# EAGLE library part ATMEGA406 (library m-pad)
ATMEL's ATmega406 8bit AVR Microcontroller with 40KB In-System Programmable Flash Summary : Previous implementations of intelligent battery protection have typically required at least two chips to perform the various tasks required which include: voltage regulation, battery monitoring, battery protection, charge management, and communication with the host application. Often a third chip has been required to store parameters specific to the particular battery. Battery packs must shrink in size along with the other components of battery-powered applications. However, when accelerating this shrink, a 3-chip solution obviously creates a PCB space problem. The ATmega406 meets all the application's demands, reducing space, design complexity, and ultimately cost. It includes an AVR® microcontroller with dedicated analog to digital converters tailored for battery fuel gauging and voltage monitoring. Also included are stand-alone high voltage battery protection circuitry, a voltage regulator capable of running the chip on a supply varying from 4 to 25 Volts, integrated cell balancing FETs, and special high voltage I/O capable of controlling charge and discharge. Advanced analog design provides the ATmega406 with unmatched on-chip voltage reference accuracy, resulting in the first single-chip smart battery implementation on the market for 2 - 4 Li-ion cells. With 40 KB of self-programmable Flash program memory, the ATmega406 is capable of in-field firmware upgrades without the need for external programming hardware. Battery parameters can be stored in the internal 2 KB EEPROM. This mix of features makes the ATmega406 AVR capable of implementing a full PC battery pack. Please send any comments to: messi@users.sourceforge.net
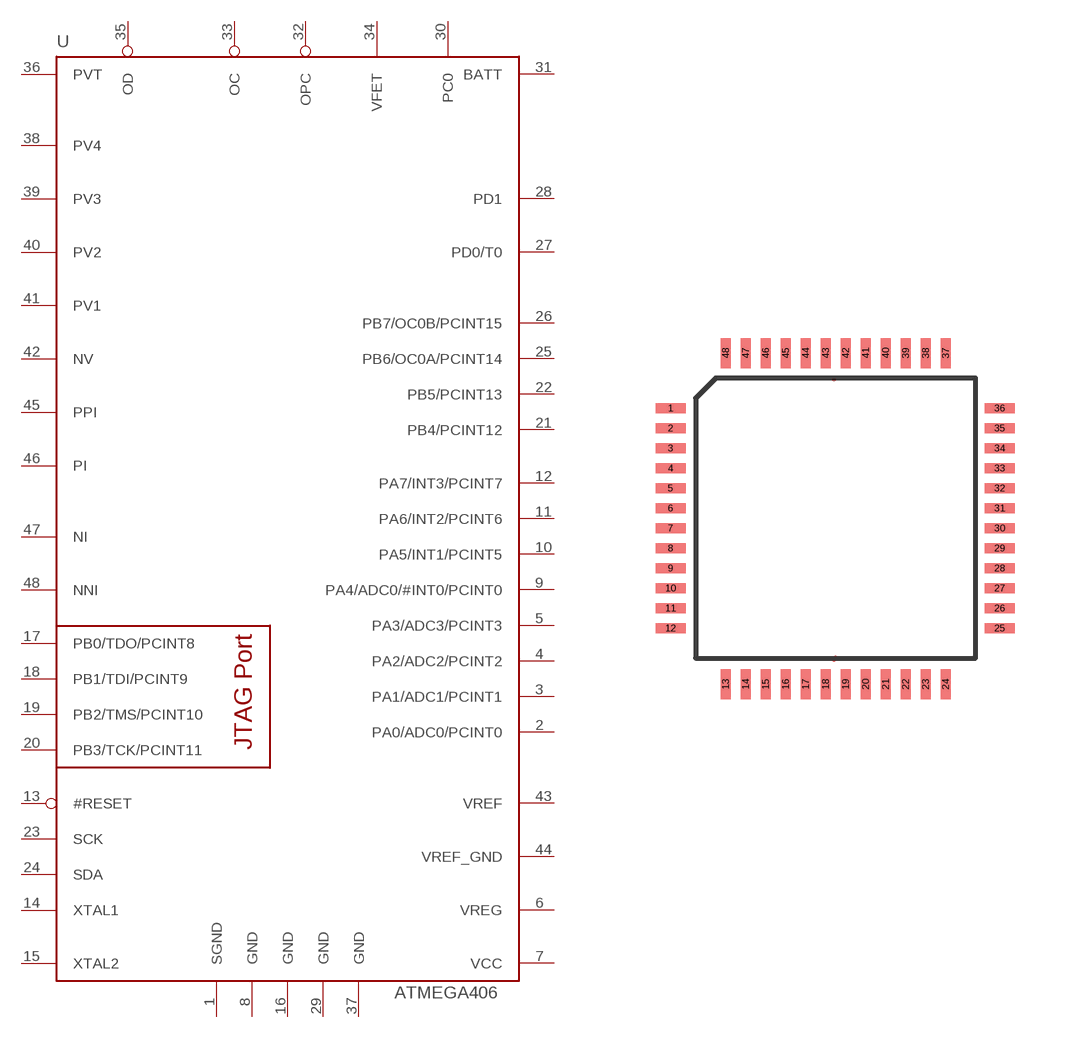
[diagram p56: symbol with the pads of LQFP48_SOT313-2; footprint LQFP48_SOT313-2]

Designator prefix U

## ATMEGA406  [LQFP48_SOT313-2]
1  SGND  pwr
2  PA0/ADC0/PCINT0
3  PA1/ADC1/PCINT1
4  PA2/ADC2/PCINT2
5  PA3/ADC3/PCINT3
6  VREG  out
7  VCC  pwr
8  GND  pwr
9  PA4/ADC0/#INT0/PCINT0
10  PA5/INT1/PCINT5
11  PA6/INT2/PCINT6
12  PA7/INT3/PCINT7
13  #RESET  in
14  XTAL1  in
15  XTAL2  in
16  GND  pwr
17  PB0/TDO/PCINT8
18  PB1/TDI/PCINT9
19  PB2/TMS/PCINT10
20  PB3/TCK/PCINT11
21  PB4/PCINT12
22  PB5/PCINT13
23  SCK
24  SDA
25  PB6/OC0A/PCINT14
26  PB7/OC0B/PCINT15
27  PD0/T0
28  PD1
29  GND  pwr
30  PC0  out
31  BATT  in
32  OPC  out
33  OC  out
34  VFET  pwr
35  OD  out
36  PVT  in
37  GND  pwr
38  PV4  in
39  PV3  in
40  PV2  in
41  PV1  in
42  NV  in
43  VREF  pwr
44  VREF_GND  pwr
45  PPI  in
46  PI  in
47  NI  in
48  NNI  in

## Footprint LQFP48_SOT313-2 (pad centres in mm)
LQFP48: plastic low profile quad flat package 48 leads body 7 x 7 x 1.4 mm
smd 0.75 x 0.25: 1 -4.125,2.75; 2 -4.125,2.25; 3 -4.125,1.75; 4 -4.125,1.25; 5 -4.125,0.75; 6 -4.125,0.25; 7 -4.125,-0.25; 8 -4.125,-0.75; 9 -4.125,-1.25; 10 -4.125,-1.75; 11 -4.125,-2.25; 12 -4.125,-2.75; 25 4.105,-2.75; 26 4.105,-2.25; 27 4.105,-1.75; 28 4.105,-1.25; 29 4.105,-0.75; 30 4.105,-0.25; 31 4.105,0.25; 32 4.105,0.75; 33 4.105,1.25; 34 4.105,1.75; 35 4.105,2.25; 36 4.105,2.75
smd 0.25 x 0.75: 13 -2.75,-4.155; 14 -2.25,-4.155; 15 -1.75,-4.155; 16 -1.25,-4.155; 17 -0.75,-4.155; 18 -0.25,-4.155; 19 0.25,-4.155; 20 0.75,-4.155; 21 1.25,-4.155; 22 1.75,-4.155; 23 2.25,-4.155; 24 2.75,-4.155; 37 2.75,4.125; 38 2.25,4.125; 39 1.75,4.125; 40 1.25,4.125; 41 0.75,4.125; 42 0.25,4.125; 43 -0.25,4.125; 44 -0.75,4.125; 45 -1.25,4.125; 46 -1.75,4.125; 47 -2.25,4.125; 48 -2.75,4.125